# Altium schematic symbol library LT3752-1.SchLib: 1 symbol
Pins are listed as number, name and electrical type; pins without a type are passive.

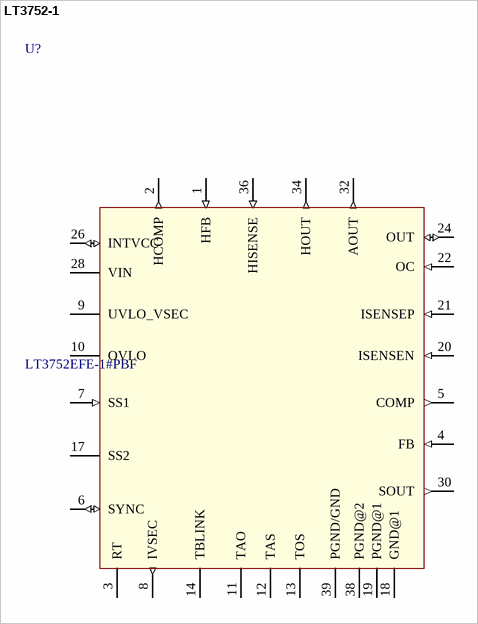
[diagram p0: symbol LT3752-1]

## LT3752-1
designator U?, comment LT3752EFE-1#PBF
LT3752/LT3752-1 - Active Clamp Synchronous Forward Controllers with Internal Housekeeping Controller; MF: Linear Technology/Analog; Availability: Unavailable; Price: None; Package: TSSOP-38 Linear Technology; SnapEDA_Link: https://www.snapeda.com/parts/LT3752EFE-1%23PBF/Analog%20Devices/view-part/?ref=snap; MP: LT3752EFE-1#PBF; Value: *
pins: 1 HFB (in), 2 HCOMP (out), 3 RT, 4 FB (in), 5 COMP (out), 6 SYNC (io), 7 SS1 (in), 8 IVSEC (out), 9 UVLO_VSEC, 10 OVLO, 11 TAO, 12 TAS, 13 TOS, 14 TBLINK, 17 SS2, 18 GND@1 (power), 19 PGND@1 (power), 20 ISENSEN (in), 21 ISENSEP (in), 22 OC (in), 24 OUT (io), 26 INTVCC (io), 28 VIN (power), 30 SOUT (out), 32 AOUT (out), 34 HOUT (out), 36 HISENSE (in), 38 PGND@2 (power), 39 PGND/GND (power)